# EAGLE library part CONN_11-1 (library pel_molex)
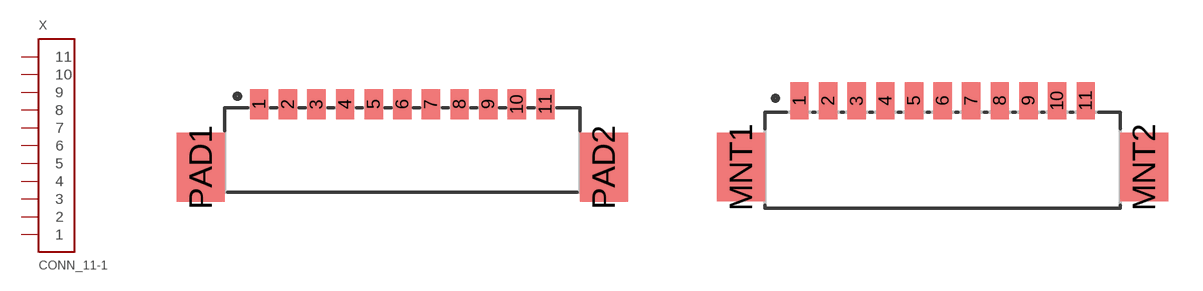
[diagram p6: symbol with the pads of PB-53398-11; footprints PB-53398-11, PB-53261-11]

Designator prefix X

## CONN_11-1-53398  [PB-53398-11]
1  1
2  2
3  3
4  4
5  5
6  6
7  7
8  8
9  9
10  10
11  11

## CONN_11-1-53261  [PB-53261-11]
Pads as for PB-53398-11

## CONN_11-1-53047  [PB-53047-11]
Pads as for PB-53398-11

## Footprint PB-53398-11 (pad centres in mm)
smd 0.8 x 1.3: 1 -6.25,1.25; 2 -5,1.25; 3 -3.75,1.25; 4 -2.5,1.25; 5 -1.25,1.25; 6 0,1.25; 7 1.25,1.25; 8 2.5,1.25; 9 3.75,1.25; 10 5,1.25; 11 6.25,1.25
smd 2.1 x 3: PAD1 -8.8,-1.5; PAD2 8.8,-1.5

## Footprint PB-53261-11 (pad centres in mm)
smd 0.8 x 1.6: 1 -6.25,1.1; 2 -5,1.1; 3 -3.75,1.1; 4 -2.5,1.1; 5 -1.25,1.1; 6 0,1.1; 7 1.25,1.1; 8 2.5,1.1; 9 3.75,1.1; 10 5,1.1; 11 6.25,1.1
smd 2.1 x 3: MNT1 -8.8,-1.8; MNT2 8.8,-1.8

## Footprint PB-53047-11 (pad centres in mm)
drill 0.5: 1 -6.25,0; 2 -5,0; 3 -3.75,0; 4 -2.5,0; 5 -1.25,0; 6 0,0; 7 1.25,0; 8 2.5,0; 9 3.75,0; 10 5,0; 11 6.25,0